# EAGLE library part ATF1504AS-10JU84 (library User-Submitted)
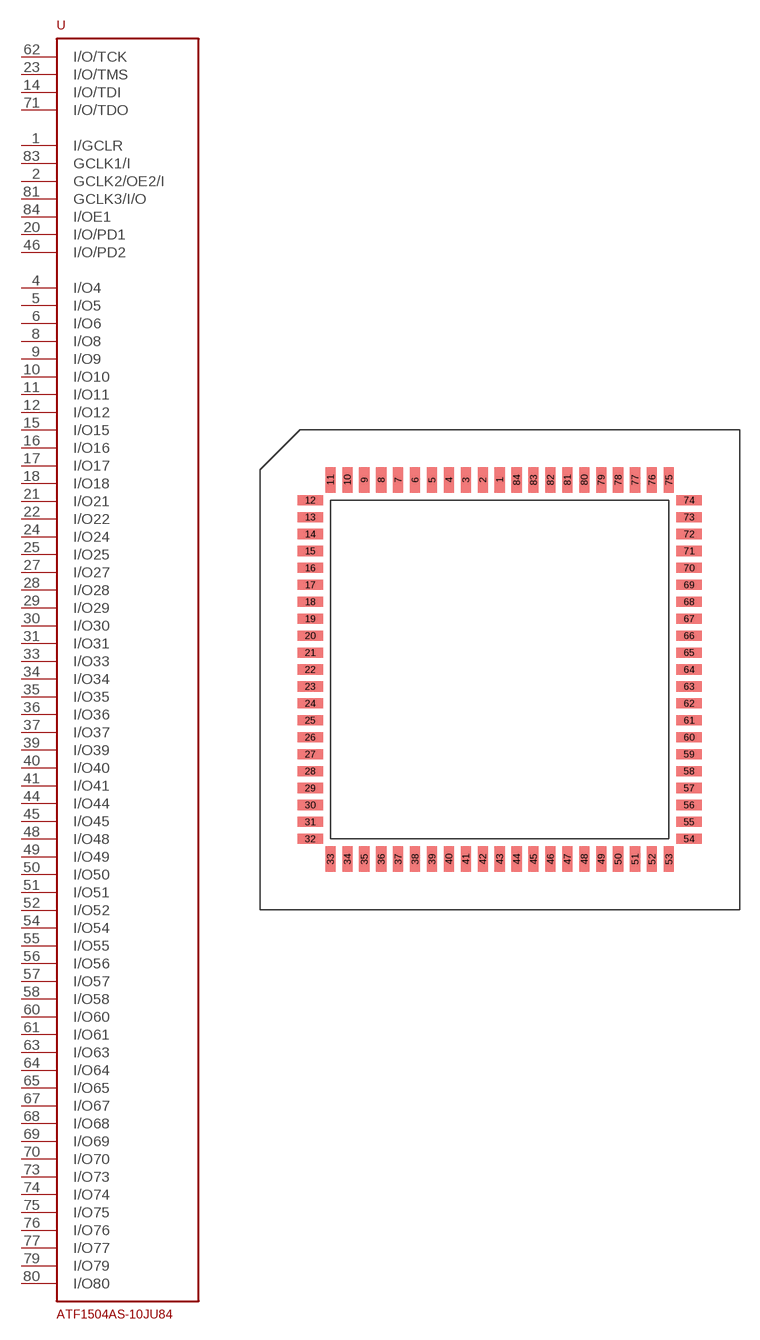
[diagram p32: symbol with the pads of A-CCS_084-Z-SM; footprint A-CCS_084-Z-SM]

Designator prefix -

## ATF1504AS-10JU84  [A-CCS_084-Z-SM]
1  I/GCLR
2  GCLK2/OE2/I
4  I/O4
5  I/O5
6  I/O6
8  I/O8
9  I/O9
10  I/O10
11  I/O11
12  I/O12
14  I/O/TDI
15  I/O15
16  I/O16
17  I/O17
18  I/O18
20  I/O/PD1
21  I/O21
22  I/O22
23  I/O/TMS
24  I/O24
25  I/O25
27  I/O27
28  I/O28
29  I/O29
30  I/O30
31  I/O31
33  I/O33
34  I/O34
35  I/O35
36  I/O36
37  I/O37
39  I/O39
40  I/O40
41  I/O41
44  I/O44
45  I/O45
46  I/O/PD2
48  I/O48
49  I/O49
50  I/O50
51  I/O51
52  I/O52
54  I/O54
55  I/O55
56  I/O56
57  I/O57
58  I/O58
60  I/O60
61  I/O61
62  I/O/TCK
63  I/O63
64  I/O64
65  I/O65
67  I/O67
68  I/O68
69  I/O69
70  I/O70
71  I/O/TDO
73  I/O73
74  I/O74
75  I/O75
76  I/O76
77  I/O77
79  I/O79
80  I/O80
81  GCLK3/I/O
83  GCLK1/I
84  I/OE1

## Footprint A-CCS_084-Z-SM (pad centres in mm)
smd 0.76 x 1.91: 1 0,14.22; 2 -1.27,14.22; 3 -2.54,14.22; 4 -3.81,14.22; 5 -5.08,14.22; 6 -6.35,14.22; 7 -7.62,14.22; 8 -8.89,14.22; 9 -10.16,14.22; 10 -11.43,14.22; 11 -12.7,14.22; 33 -12.7,-14.22; 34 -11.43,-14.22; 35 -10.16,-14.22; 36 -8.89,-14.22; 37 -7.62,-14.22; 38 -6.35,-14.22; 39 -5.08,-14.22; 40 -3.81,-14.22; 41 -2.54,-14.22; 42 -1.27,-14.22; 43 0,-14.22; 44 1.27,-14.22; 45 2.54,-14.22; 46 3.81,-14.22; 47 5.08,-14.22; 48 6.35,-14.22; 49 7.62,-14.22; 50 8.89,-14.22; 51 10.16,-14.22; 52 11.43,-14.22; 53 12.7,-14.22; 75 12.7,14.22; 76 11.43,14.22; 77 10.16,14.22; 78 8.89,14.22; 79 7.62,14.22; 80 6.35,14.22; 81 5.08,14.22; 82 3.81,14.22; 83 2.54,14.22; 84 1.27,14.22
smd 1.91 x 0.76: 12 -14.22,12.7; 13 -14.22,11.43; 14 -14.22,10.16; 15 -14.22,8.89; 16 -14.22,7.62; 17 -14.22,6.35; 18 -14.22,5.08; 19 -14.22,3.81; 20 -14.22,2.54; 21 -14.22,1.27; 22 -14.22,0; 23 -14.22,-1.27; 24 -14.22,-2.54; 25 -14.22,-3.81; 26 -14.22,-5.08; 27 -14.22,-6.35; 28 -14.22,-7.62; 29 -14.22,-8.89; 30 -14.22,-10.16; 31 -14.22,-11.43; 32 -14.22,-12.7; 54 14.22,-12.7; 55 14.22,-11.43; 56 14.22,-10.16; 57 14.22,-8.89; 58 14.22,-7.62; 59 14.22,-6.35; 60 14.22,-5.08; 61 14.22,-3.81; 62 14.22,-2.54; 63 14.22,-1.27; 64 14.22,0; 65 14.22,1.27; 66 14.22,2.54; 67 14.22,3.81; 68 14.22,5.08; 69 14.22,6.35; 70 14.22,7.62; 71 14.22,8.89; 72 14.22,10.16; 73 14.22,11.43; 74 14.22,12.7